# Altium footprint library te_ampseal_1-776163-1.PcbLib: 1 footprints
Each footprint in its own frame and in the unit in brackets; x right, y up, seen from the top. Pads: shape width x height; smd on the part's side, far side on the other; paste and mask are expansions set on the pad; w line width, h text height; cw(c..) or ccw(c..) is an arc to the next point about the centre after c.
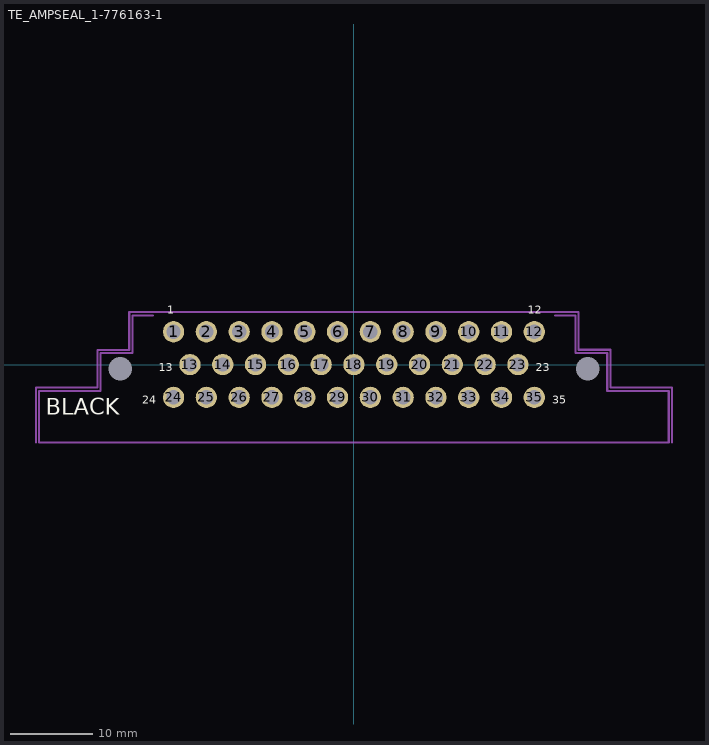
[diagram p0: the footprint, top view; thin cyan lines are the x and y axes]

## TE_AMPSEAL_1-776163-1 [mm]
pads (37):
  round 2.6 hole 1.75: 1(-22,4) 2(-18,4) 3(-14,4) 4(-10,4) 5(-6,4) 6(-2,4) 7(2,4) 8(6,4) 9(10,4) 10(14,4) 11(18,4) 12(22,4) 13(-20,0) 14(-16,0) 15(-12,0) 16(-8,0) 17(-4,0) 18(0,0) 19(4,0) 20(8,0) 21(12,0) 22(16,0) 23(20,0) 24(-22,-4) 25(-18,-4) 26(-14,-4) 27(-10,-4) 28(-6,-4) 29(-2,-4) 30(2,-4) 31(6,-4) 32(10,-4) 33(14,-4) 34(18,-4) 35(22,-4)
  round 0 hole 2.85: MH(-28.5,-0.5) MH(28.5,-0.5)
Top Overlay:
  text "1" at -22.8,6.2 h1
  text "13" at -23.8,-0.8 h1
  text "24" at -25.8,-4.8 h1
  text "12" at 21.2,6.2 h1
  text "23" at 22.2,-0.8 h1
  text "35" at 24.2,-4.8 h1
  text "BLACK" at -37.6,-6.1 h2
Bottom Overlay:
  text "1" at -22.45,6.2 h1
  text "13" at -22.45,-0.8 h1
  text "24" at -24.2,-4.8 h1
  text "12" at 22.55,6.2 h1
  text "23" at 23.8,-0.8 h1
  text "35" at 25.8,-4.8 h1
Top 3D Body (Mech13):
  lines w0.254: -24.5,6 -27,6 -27,1.4 -30.9,1.4 -30.9,-3.2 -38.4,-3.2 -38.4,-9.5 38.4,-9.5 38.4,-3.2 30.9,-3.2 30.9,1.4 27,1.4 27,6 24.5,6
  text "Recommended PCB edge" at -8.8,-8.467 h1
Top Courtyard:
  lines w0.254: -38.8,-9.5 -38.8,-2.8 -31.3,-2.8 -31.3,1.8 -27.4,1.8 -27.4,6.4 27.4,6.4 27.4,1.8 ; 27.4,1.81 31.315,1.81 31.315,-2.79 38.815,-2.79 38.815,-9.49
Top Designator:
  text ".Designator" at -2.05,-0.467 h1
3D body "1-776163-1_colorized.step": height 27.78, standoff -4.32, extent -38.45,-31.8 38.45,6